# Altium footprint library PCB-Relay-Board-V1.PcbLib: 26 footprints (part 1 of 2)
Each footprint in its own frame and in the unit in brackets; x right, y up, seen from the top. Pads: shape width x height; smd on the part's side, far side on the other; paste and mask are expansions set on the pad; w line width, h text height; cw(c..) or ccw(c..) is an arc to the next point about the centre after c.
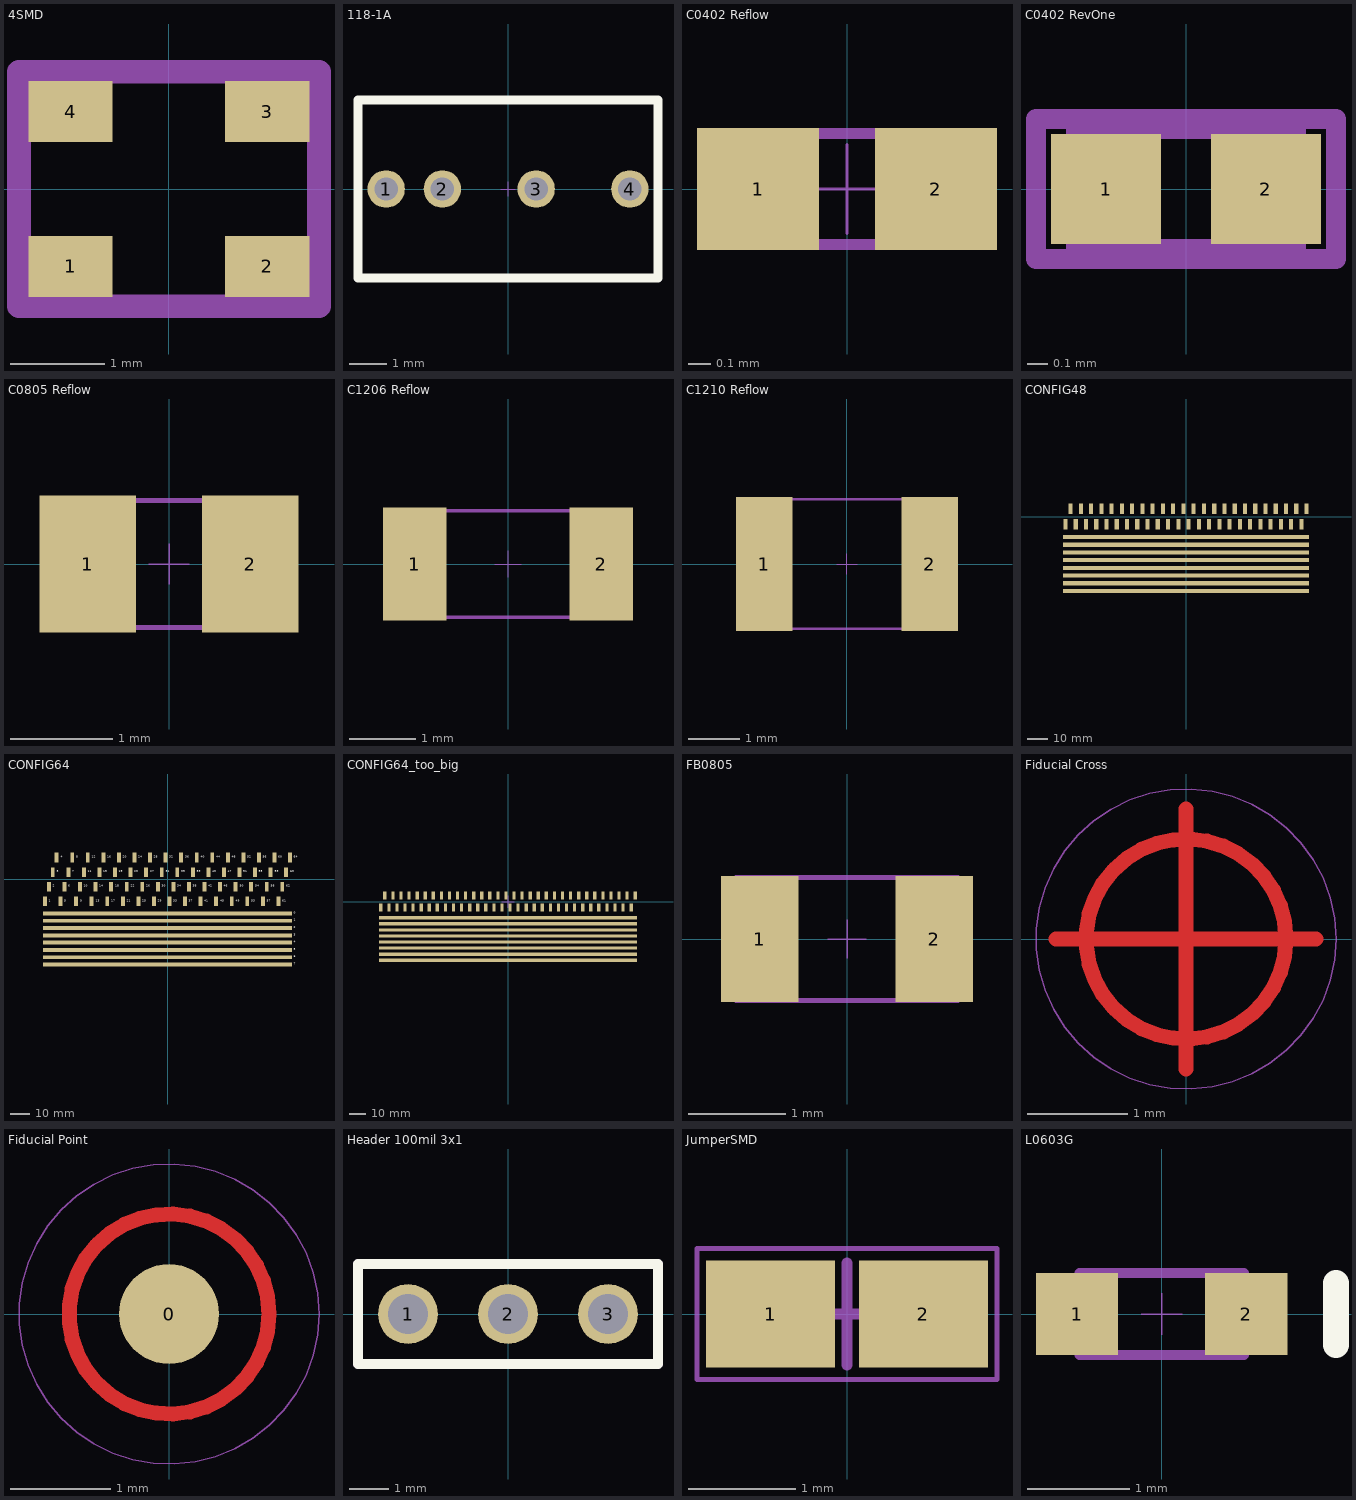
[diagram p0: the footprints below, top view; thin cyan lines are the x and y axes]

## 4SMD [mm]
pads (4):
  rect 0.9x0.65 smd paste+0: 1(-1.05,-0.825) 2(1.05,-0.825) 3(1.05,0.825) 4(-1.05,0.825)
Top Courtyard:
  lines w0.254: -1.6,-1.25 1.6,-1.25 1.6,1.25 -1.6,1.25 -1.6,-1.25
3D body "ASE.STEP": height 1.2, standoff 0, extent -1.6,-1.25 1.6,1.25

## 118-1A [mil] "ATE Relay (NO)"
height 610
pads (4):
  round 40 hole 25: 1(-130,0) 2(-70,0) 3(30,0) 4(130,0)
Top Overlay:
  lines w10: -160,-95 160,-95 160,95 -160,95 -160,-95
Top Courtyard:
  lines w1.97: -160.04,93.98 -160.04,-94.96 -160,-95 160,-95 160,95 -160,95
Mechanical 17:
  lines w0.51: -7.87,0 7.87,0 ; 0,-7.87 0,7.87
3D body "118-1-A.STEP": height 600, standoff -124.8, extent -160.04,-95 160.04,93.98

## C0402 Reflow [mm] "SMT CAP 0402 Reflow Soldering"
pads (2):
  rect 0.55x0.55 smd: 1(-0.4,0) 2(0.4,0)
Top Solder:
  rectangle: -0.3,-0.377 0.3,0.377
Top Courtyard:
  lines w0.05: -0.5,-0.25 -0.5,0.25 0.5,0.25 0.5,-0.25 -0.5,-0.25
Mechanical 17:
  lines w0.013: -0.2,0 0.2,0 ; 0,-0.2 0,0.2
3D body "C0402.STEP": height 0.5, standoff 0, extent -0.5,-0.25 0.5,0.25

## C0402 RevOne [mm] "Chip Capacitor; Body 1.0x0.5mm (LxW typ), IPC High Density"
height 0.6
pads (2):
  rect 0.55x0.55 smd: 1(-0.4,0) 2(0.4,0)
Top Courtyard:
  lines w0.1: -0.75,-0.35 0.75,-0.35 0.75,0.35 -0.75,0.35 -0.75,-0.35
Top Component Outline:
  lines w0.1: -0.55,-0.3 -0.55,0.3 0.55,0.3 0.55,-0.3 -0.55,-0.3
3D body: height 0.6, standoff 0, extent -0.55,-0.3 0.55,0.3

## C0805 Reflow [mm] "SMT Capacitor 0805 Reflow Soldering"
pads (2):
  rect 0.95x1.35 smd: 1(-0.8,0) 2(0.8,0)
Top Courtyard:
  lines w0.05: -1,-0.625 -1,0.625 1,0.625 1,-0.625 -1,-0.625
Mechanical 17:
  lines w0.013: -0.2,0 0.2,0 ; 0,-0.2 0,0.2
3D body "C0805.STEP": height 0.6, standoff 0, extent -1,-0.625 1,0.625

## C1206 Reflow [mm] "SMT Capacitor 1206 Reflow Soldering"
pads (2):
  rect 0.95x1.7 smd: 1(-1.4,0) 2(1.4,0)
Top Courtyard:
  lines w0.05: -1.6,-0.8 -1.6,0.8 1.6,0.8 1.6,-0.8 -1.6,-0.8
Mechanical 17:
  lines w0.013: -0.2,0 0.2,0 ; 0,-0.2 0,0.2
3D body "C1206.STEP": height 0.78, standoff 0, extent -1.6,-0.8 1.6,0.8

## C1210 Reflow [mm] "SMT Capacitor 1210 Reflow Soldering"
pads (2):
  rect 1.1x2.6 smd: 1(-1.6,0) 2(1.6,0)
Top Courtyard:
  lines w0.05: -1.6,-1.25 1.6,-1.25 1.6,1.25 -1.6,1.25 -1.6,-1.25
Mechanical 17:
  lines w0.013: -0.2,0 0.2,0 ; 0,-0.2 0,0.2
3D body "C1210.STEP": height 0.78, standoff 0, extent -1.6,-1.25 1.6,1.25

## CONFIG48 [mm] "PCB Tester Configuration area (48 relays)"
pads (56):
  rect 2x5 smd: 1(-58.75,-3.75) 2(-56.25,3.75) 3(-53.75,-3.75) 4(-51.25,3.75) 5(-48.75,-3.75) 6(-46.25,3.75) 7(-43.75,-3.75) 8(-41.25,3.75) 9(-38.75,-3.75) 10(-36.25,3.75) 11(-33.75,-3.75) 12(-31.25,3.75) 13(-28.75,-3.75) 14(-26.25,3.75) 15(-23.75,-3.75) 16(-21.25,3.75) 17(-18.75,-3.75) 18(-16.25,3.75) 19(-13.75,-3.75) 20(-11.25,3.75) 21(-8.75,-3.75) 22(-6.25,3.75) 23(-3.75,-3.75) 24(-1.25,3.75) 25(1.25,-3.75) 26(3.75,3.75) 27(6.25,-3.75) 28(8.75,3.75) 29(11.25,-3.75) 30(13.75,3.75) 31(16.25,-3.75) 32(18.75,3.75) 33(21.25,-3.75) 34(23.75,3.75) 35(26.25,-3.75) 36(28.75,3.75) 37(31.25,-3.75) 38(33.75,3.75) 39(36.25,-3.75) 40(38.75,3.75) 41(41.25,-3.75) 42(43.75,3.75) 43(46.25,-3.75) 44(48.75,3.75) 45(51.25,-3.75) 46(53.75,3.75) 47(56.25,-3.75) 48(58.75,3.75)
  rect 120x2 smd paste-100: ABUS0(0,-10) ABUS1(0,-13.75) ABUS2(0,-17.5) ABUS3(0,-21.25) ABUS4(0,-25) ABUS5(0,-28.75) ABUS6(0,-32.5) ABUS7(0,-36.25)

## CONFIG64 [mm] "PCB Tester Configuration area (64 relays)"
pads (72):
  rect 2x5 smd: 1(-63,-11.25) 2(-61,-3.75) 3(-59,3.75) 4(-57,11.25) 5(-55,-11.25) 6(-53,-3.75) 7(-51,3.75) 8(-49,11.25) 9(-47,-11.25) 10(-45,-3.75) 11(-43,3.75) 12(-41,11.25) 13(-39,-11.25) 14(-37,-3.75) 15(-35,3.75) 16(-33,11.25) 17(-31,-11.25) 18(-29,-3.75) 19(-27,3.75) 20(-25,11.25) 21(-23,-11.25) 22(-21,-3.75) 23(-19,3.75) 24(-17,11.25) 25(-15,-11.25) 26(-13,-3.75) 27(-11,3.75) 28(-9,11.25) 29(-7,-11.25) 30(-5,-3.75) 31(-3,3.75) 32(-1,11.25) 33(1,-11.25) 34(3,-3.75) 35(5,3.75) 36(7,11.25) 37(9,-11.25) 38(11,-3.75) 39(13,3.75) 40(15,11.25) 41(17,-11.25) 42(19,-3.75) 43(21,3.75) 44(23,11.25) 45(25,-11.25) 46(27,-3.75) 47(29,3.75) 48(31,11.25) 49(33,-11.25) 50(35,-3.75) 51(37,3.75) 52(39,11.25) 53(41,-11.25) 54(43,-3.75) 55(45,3.75) 56(47,11.25) 57(49,-11.25) 58(51,-3.75) 59(53,3.75) 60(55,11.25) 61(57,-11.25) 62(59,-3.75) 63(61,3.75) 64(63,11.25)
  rect 128x2 smd paste-100: ABUS0(0,-17.5) ABUS1(0,-21.25) ABUS2(0,-25) ABUS3(0,-28.75) ABUS4(0,-32.5) ABUS5(0,-36.25) ABUS6(0,-40) ABUS7(0,-43.75)
Top Overlay:
  text "64" at 65,10.616 h2
  text "63" at 63,3.125 h2
  text "62" at 61,-4.382 h2
  text "61" at 58.996,-11.883 h2
  text "60" at 57,10.616 h2
  text "59" at 55,3.125 h2
  text "58" at 53,-4.382 h2
  text "57" at 50.996,-11.883 h2
  text "56" at 49,10.616 h2
  text "55" at 47,3.125 h2
  text "54" at 45,-4.382 h2
  text "53" at 42.996,-11.883 h2
  text "52" at 41,10.616 h2
  text "51" at 39,3.125 h2
  text "50" at 37,-4.382 h2
  text "49" at 34.996,-11.883 h2
  text "48" at 33,10.616 h2
  text "47" at 31,3.125 h2
  text "46" at 29,-4.382 h2
  text "45" at 26.996,-11.883 h2
  text "44" at 25,10.616 h2
  text "43" at 23,3.125 h2
  text "42" at 21,-4.382 h2
  text "41" at 18.996,-11.883 h2
  text "40" at 17,10.616 h2
  text "39" at 15,3.125 h2
  text "38" at 13,-4.382 h2
  text "37" at 10.996,-11.883 h2
  text "36" at 9,10.616 h2
  text "35" at 7,3.125 h2
  text "34" at 5,-4.382 h2
  text "33" at 2.996,-11.883 h2
  text "32" at 1,10.616 h2
  text "31" at -1,3.125 h2
  text "30" at -3,-4.382 h2
  text "29" at -5.004,-11.883 h2
  text "28" at -7,10.616 h2
  text "27" at -9,3.125 h2
  text "26" at -11,-4.382 h2
  text "25" at -13.004,-11.883 h2
  text "24" at -15,10.616 h2
  text "23" at -17,3.125 h2
  text "22" at -19,-4.382 h2
  text "21" at -21.004,-11.883 h2
  text "20" at -23,10.616 h2
  text "19" at -25,3.125 h2
  text "18" at -27,-4.382 h2
  text "17" at -29.004,-11.883 h2
  text "16" at -31,10.616 h2
  text "15" at -33,3.125 h2
  text "14" at -35,-4.382 h2
  text "13" at -37.004,-11.883 h2
  text "12" at -39,10.616 h2
  text "11" at -41,3.125 h2
  text "10" at -43,-4.382 h2
  text "9" at -45.004,-11.883 h2
  text "8" at -47,10.616 h2
  text "7" at -49,3.125 h2
  text "6" at -51,-4.382 h2
  text "5" at -53.004,-11.883 h2
  text "7" at 65,-44.371 h2
  text "6" at 65,-40.647 h2
  text "5" at 65,-36.887 h2
  text "4" at 65,-33.11 h2
  text "3" at 65,-29.367 h2
  text "2" at 65,-25.608 h2
  text "1" at 65,-21.884 h2
  text "0" at 65,-18.124 h2
  text "1" at -61.005,-11.882 h2
  text "2" at -59,-4.381 h2
  text "3" at -57,3.125 h2
  text "4" at -55,10.616 h2

## CONFIG64_too_big [mm] "PCB Tester Configuration area (64 relays)"
pads (72):
  rect 2x5 smd: 1(-78.75,-3.75) 2(-76.25,3.75) 3(-73.75,-3.75) 4(-71.25,3.75) 5(-68.75,-3.75) 6(-66.25,3.75) 7(-63.75,-3.75) 8(-61.25,3.75) 9(-58.75,-3.75) 10(-56.25,3.75) 11(-53.75,-3.75) 12(-51.25,3.75) 13(-48.75,-3.75) 14(-46.25,3.75) 15(-43.75,-3.75) 16(-41.25,3.75) 17(-38.75,-3.75) 18(-36.25,3.75) 19(-33.75,-3.75) 20(-31.25,3.75) 21(-28.75,-3.75) 22(-26.25,3.75) 23(-23.75,-3.75) 24(-21.25,3.75) 25(-18.75,-3.75) 26(-16.25,3.75) 27(-13.75,-3.75) 28(-11.25,3.75) 29(-8.75,-3.75) 30(-6.25,3.75) 31(-3.75,-3.75) 32(-1.25,3.75) 33(1.25,-3.75) 34(3.75,3.75) 35(6.25,-3.75) 36(8.75,3.75) 37(11.25,-3.75) 38(13.75,3.75) 39(16.25,-3.75) 40(18.75,3.75) 41(21.25,-3.75) 42(23.75,3.75) 43(26.25,-3.75) 44(28.75,3.75) 45(31.25,-3.75) 46(33.75,3.75) 47(36.25,-3.75) 48(38.75,3.75)
  rect 2x5 smd paste-1: 49(41.25,-3.75) 50(43.75,3.75) 51(46.25,-3.75) 52(48.75,3.75) 53(51.25,-3.75) 54(53.75,3.75) 55(56.25,-3.75) 56(58.75,3.75) 57(61.25,-3.75) 58(63.75,3.75) 59(66.25,-3.75) 60(68.75,3.75) 61(71.25,-3.75) 62(73.75,3.75) 63(76.25,-3.75) 64(78.75,3.75)
  rect 159.5x2 smd paste-100: ABUS0(0,-10) ABUS1(0,-13.75) ABUS2(0,-17.5) ABUS3(0,-21.25) ABUS4(0,-25) ABUS5(0,-28.75) ABUS6(0,-32.5) ABUS7(0,-36.25)
Mechanical 17:
  lines w0.254: -3.75,0 3.75,0 ; 0,-3.75 0,3.75

## FB0805 [mm] "SMT Ferrite Bead 0805"
pads (2):
  rect 0.8x1.3 smd: 1(-0.9,0) 2(0.9,0)
Top Courtyard:
  lines w0.05: -1.15,-0.635 1.15,-0.635 1.15,0.635 -1.15,0.635 -1.15,-0.635
Mechanical 17:
  lines w0.013: -0.2,0 0.2,0 ; 0,-0.2 0,0.2
3D body "MPZ2012.STEP": height 1.05, standoff 0, extent -1.15,-0.635 1.15,0.635

## Fiducial Cross [mm]
Top Layer:
  circle w0.15: c0,0 r1
  lines w0.15: -1.3,0 1.3,0 ; 0,-1.3 0,1.3
Top Solder:
  region: 0,0
  region: 0,-1.5 -0.148,-1.5 -0.438,-1.442 -0.711,-1.329 -0.956,-1.165 -1.165,-0.956 -1.329,-0.711 -1.442,-0.438 -1.5,-0.148 -1.5,0 -1.5,0.148 -1.442,0.438 -1.329,0.711 -1.165,0.956 -0.956,1.165 -0.711,1.329 -0.438,1.442 -0.148,1.5 0,1.5 0.148,1.5 0.438,1.442 0.711,1.329 0.956,1.165 1.165,0.956 1.329,0.711 1.442,0.438 1.5,0.148 1.5,0 1.5,-0.148 1.442,-0.438 1.329,-0.711 1.165,-0.956 0.956,-1.165 0.711,-1.329 0.438,-1.442 0.148,-1.5
Mechanical 17:
  circle w0.013: c0,0 r1.5

## Fiducial Point [mm]
pads (1):
  round 1 smd paste+0 mask+0: 0(0,0)
Top Layer:
  circle w0.15: c0,0 r1
Top Solder:
  region: 0,-1.5 -0.148,-1.5 -0.438,-1.442 -0.711,-1.329 -0.956,-1.165 -1.165,-0.956 -1.329,-0.711 -1.442,-0.438 -1.5,-0.148 -1.5,0 -1.5,0.148 -1.442,0.438 -1.329,0.711 -1.165,0.956 -0.956,1.165 -0.711,1.329 -0.438,1.442 -0.148,1.5 0,1.5 0.148,1.5 0.438,1.442 0.711,1.329 0.956,1.165 1.165,0.956 1.329,0.711 1.442,0.438 1.5,0.148 1.5,0 1.5,-0.148 1.442,-0.438 1.329,-0.711 1.165,-0.956 0.956,-1.165 0.711,-1.329 0.438,-1.442 0.148,-1.5
Mechanical 17:
  circle w0.013: c0,0 r1.5

## Header 100mil 3x1 [mil] "HMTSW-103-07-G-S-240"
pads (3):
  round 60 hole 40: 1(-100,0) 2(0,0) 3(100,0)
Top Overlay:
  lines w10: -150,-50 -150,50 150,50 150,-50 -150,-50
  text "." at -102.76,-70.87 h39.37
Top Courtyard:
  lines w10: -150,-50 -150,50 150,50 150,-50 -150,-50
3D body "HMTSW-103-07-G-S-240.STEP": height 340, standoff -90, extent -149.99,-48.99 150.01,49

## JumperSMD [mm] "Chip Resistor, Body 1.6x0.8mm (LxW typ), IPC High Density"
height 10
pads (2):
  rect 1.2x1 smd: 1(-0.711,0) 2(0.711,0)
Top Courtyard:
  lines w0.05: -1.397,-0.61 1.397,-0.61 1.397,0.61 -1.397,0.61 -1.397,-0.61
Mechanical 17:
  lines w0.1: -0.475,0 0.475,0 ; 0,-0.475 0,0.475 0,-0.475
3D body "R0603.STEP": height 0.45, standoff 0, extent -0.889,-0.4 0.711,0.4

## L0603G [mm] "LTST-C191KGKT"
pads (2):
  rect 0.8x0.8 smd: 1(-0.825,0) 2(0.825,0)
Top Overlay:
  lines w0.254: 1.7,-0.3 1.7,0.3
Top Courtyard:
  lines w0.1: -0.8,-0.4 -0.8,0.4 0.8,0.4 0.8,-0.4 -0.8,-0.4
Mechanical 17:
  lines w0.013: -0.2,0 0.2,0 ; 0,-0.2 0,0.2
3D body "L0603G.STEP": height 0.8, standoff 0, extent -0.8,-0.4 0.8,0.4